# EAGLE library part LPPB131NFFN-RC (library umich)
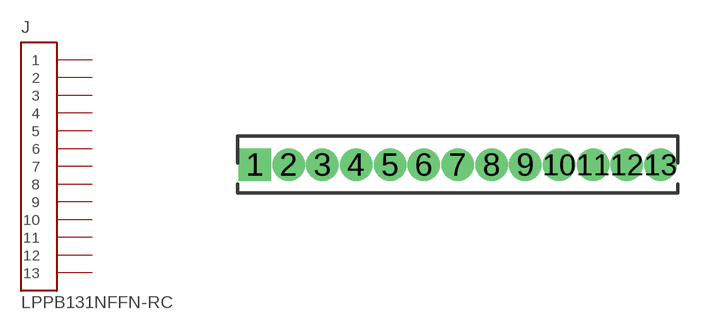
[diagram p6: symbol with the pads of LPPB131NFFN-RC; footprint LPPB131NFFN-RC]

Designator prefix J

## LPPB131NFFN-RC  [LPPB131NFFN-RC]
1  1
2  2
3  3
4  4
5  5
6  6
7  7
8  8
9  9
10  10
11  11
12  12
13  13

## Footprint LPPB131NFFN-RC (pad centres in mm)
drill 0.711 pad 1.067 square: 1 -7.62,0
drill 0.711 pad 1.067: 2 -6.35,0; 3 -5.08,0; 4 -3.81,0; 5 -2.54,0; 6 -1.27,0; 7 0,0; 8 1.27,0; 9 2.54,0; 10 3.81,0; 11 5.08,0; 12 6.35,0; 13 7.62,0